# Altium footprint library Hydrophone.PcbLib: 32 footprints (part 1 of 2)
Each footprint in its own frame and in the unit in brackets; x right, y up, seen from the top. Pads: shape width x height; smd on the part's side, far side on the other; paste and mask are expansions set on the pad; w line width, h text height; cw(c..) or ccw(c..) is an arc to the next point about the centre after c.
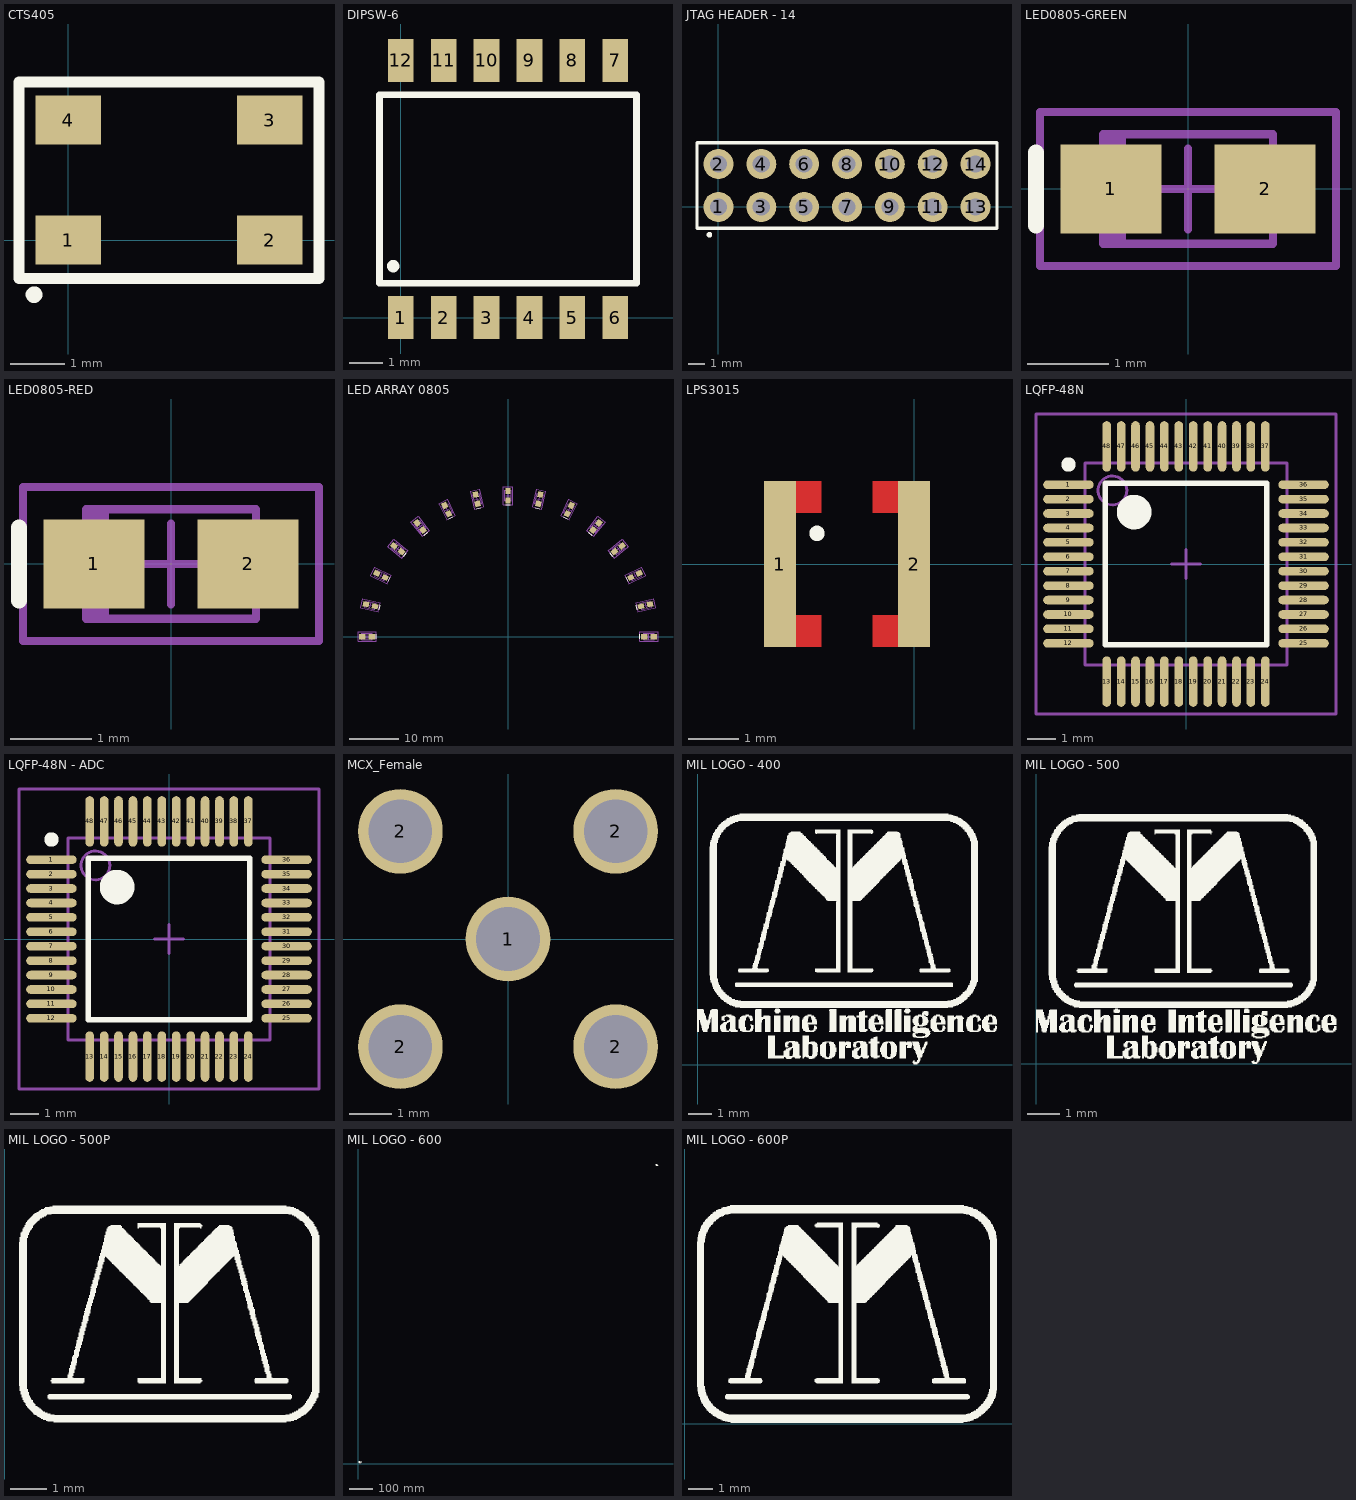
[diagram p0: the footprints below, top view; thin cyan lines are the x and y axes]

## CTS405 [mm]
pads (4):
  rect 1.2x0.9 smd: 1(0,0) 2(3.7,0) 3(3.7,2.2) 4(0,2.2)
Top Overlay:
  circle w0.254: c-0.625,-1 r0.025
  lines w0.203: -0.9,-0.7 4.6,-0.7 4.6,2.9 -0.9,2.9 -0.9,-0.7
3D body: height 0.9, standoff -0.05, extent -0.65,-0.5 4.35,2.7

## DIPSW-6 [mil] "6 POS Dip SW"
height 92.52
pads (12):
  rect 30x50 smd: 1(0,0) 2(50,0) 3(100,0) 4(150,0) 5(200,0) 6(250,0) 7(250,300) 8(200,300) 9(150,300) 10(100,300) 11(50,300) 12(0,300)
Top Overlay:
  circle w10: c-9,60 r2.24
  lines w8: -25,40 275,40 275,260 -25,260 -25,40
3D body: height 92.52, standoff 0, extent -47,-10 297.49,310.19

## JTAG HEADER - 14 [mil]
pads (14):
  round 70 hole 40: 1(0,0) 2(0,100) 3(100,0) 4(100,100) 5(200,0) 6(200,100) 7(300,0) 8(300,100) 9(400,0) 10(400,100) 11(500,0) 12(500,100) 13(600,0) 14(600,100)
Top Overlay:
  circle w10: c-21,-65 r1.41
  lines w8: -50,-50 -50,150 650,150 650,-50 -50,-50
3D body: height 233.86, standoff -115.75, extent -50,-50 650,150

## LED0805-GREEN [mm] "Molded Diode, 2-Leads, Body 2.0x1.3mm, IPC Medium Density"
height 0.9
pads (2):
  rect 1.25x1.1 smd: 1(-0.95,0) 2(0.95,0)
Top Overlay:
  lines w0.2: -1.875,-0.45 -1.875,0.45
Mechanical 13:
  rectangle: -1.05,-0.675 -0.768,0.675
  lines w0.1: -1.05,-0.675 1.05,-0.675 1.05,0.675 -1.05,0.675 -1.05,-0.675
Mechanical 15:
  lines w0.1: -0.5,0 0.5,0 ; 0,-0.5 0,0.5 ; -1.825,-0.95 1.825,-0.95 1.825,0.95 -1.825,0.95 -1.825,-0.95
3D body: height 1.1, standoff 0, extent -1.01,-0.625 1.01,0.625

## LED0805-RED [mm] "Molded Diode, 2-Leads, Body 2.0x1.3mm, IPC Medium Density"
height 0.9
pads (2):
  rect 1.25x1.1 smd: 1(-0.95,0) 2(0.95,0)
Top Overlay:
  lines w0.2: -1.875,-0.45 -1.875,0.45
Mechanical 13:
  rectangle: -1.05,-0.675 -0.768,0.675
  lines w0.1: -1.05,-0.675 -1.05,0.675 1.05,0.675 1.05,-0.675 -1.05,-0.675
Mechanical 15:
  lines w0.1: -0.5,0 0.5,0 ; 0,-0.5 0,0.5 ; -1.825,-0.95 -1.825,0.95 1.825,0.95 1.825,-0.95 -1.825,-0.95
3D body: height 1.1, standoff 0, extent -1.01,-0.625 1.01,0.625

## LED Array [mm]

## LED ARRAY 0805 [mm] "Molded Diode, 2-Leads, Body 2.0x1.3mm, IPC Medium Density"
height 0.9
pads (32):
  rect 1.25x1.1 smd: 1(27.625,0) 1(27.625,0) 2(29.525,0) 2(29.525,0) 29(-27.625,0.001) 30(-29.525,0.001)
  rect 1.1x1.25 smd rot 102.86: 3(26.932,6.147) 4(28.785,6.57)
  rect 1.1x1.25 smd rot 115.71: 5(24.889,11.986) 6(26.601,12.81)
  rect 1.1x1.25 smd rot 128.57: 7(21.598,17.224) 8(23.084,18.408)
  rect 1.1x1.25 smd rot 141.43: 9(17.224,21.598) 10(18.409,23.083)
  rect 1.1x1.25 smd rot 154.28: 11(11.986,24.889) 12(12.811,26.601)
  rect 1.1x1.25 smd rot 167.14: 13(6.148,26.932) 14(6.57,28.785)
  rect 1.1x1.25 smd: 15(0,27.625) 16(0.001,29.525)
  rect 1.1x1.25 smd rot 12.86: 17(-6.147,26.933) 18(-6.569,28.785)
  rect 1.1x1.25 smd rot 25.71: 19(-11.985,24.89) 20(-12.81,26.601)
  rect 1.1x1.25 smd rot 38.57: 21(-17.223,21.599) 22(-18.408,23.084)
  rect 1.1x1.25 smd rot 51.43: 23(-21.598,17.225) 24(-23.083,18.409)
  rect 1.1x1.25 smd rot 64.28: 25(-24.889,11.987) 26(-26.601,12.811)
  rect 1.1x1.25 smd rot 77.14: 27(-26.932,6.148) 28(-28.785,6.571)
Top Overlay:
  lines w0.2: -26.7,-0.449 -26.7,0.451 ; -26.131,5.503 -25.93,6.381 ; -24.251,11.18 -23.86,11.991 ; -21.155,16.296 -20.594,17 ; -16.998,20.595 -16.295,21.156 ; -11.99,23.861 -11.179,24.251 ; -6.38,25.931 -5.502,26.131 ; -0.45,26.7 0.45,26.7 ; 5.503,26.131 6.38,25.93 ; 11.18,24.251 11.99,23.86 ; 16.296,21.155 16.999,20.594 ; 20.594,16.999 21.156,16.295 ; 23.861,11.99 24.251,11.179 ; 25.93,6.38 26.131,5.503 ; 26.7,-0.45 26.7,0.45 26.7,-0.45
Mechanical 13:
  region: -27.525,0.676 -27.807,0.676 -27.807,-0.674 -27.525,-0.674
  region: -26.684,6.784 -26.96,6.847 -27.26,5.531 -26.985,5.468
  region: -24.506,12.552 -24.76,12.674 -25.346,11.458 -25.092,11.335
  region: -21.099,17.69 -21.319,17.866 -22.161,16.811 -21.94,16.634
  region: -16.633,21.941 -16.809,22.162 -17.865,21.32 -17.689,21.099
  region: -11.334,25.092 -11.456,25.347 -12.673,24.761 -12.55,24.507
  region: -5.466,26.985 -5.529,27.261 -6.845,26.96 -6.782,26.685
  region: 0.675,27.525 0.675,27.807 -0.675,27.807 -0.675,27.525
  region: 6.783,26.685 6.846,26.96 5.53,27.26 5.467,26.985
  region: 12.551,24.506 12.674,24.761 11.457,25.346 11.335,25.092
  region: 17.689,21.099 17.866,21.32 16.81,22.161 16.634,21.941
  region: 21.941,16.634 22.162,16.81 21.32,17.865 21.099,17.689
  region: 25.092,11.334 25.347,11.457 24.761,12.673 24.506,12.551
  region: 26.985,5.467 27.26,5.53 26.96,6.846 26.685,6.783
  rectangle: 27.525,-0.675 27.807,0.675
  rectangle: 27.525,-0.675 27.807,0.675
  lines w0.1: 27.525,-0.675 29.625,-0.675 ; 27.525,-0.675 27.525,0.675 ; 27.525,-0.675 27.525,0.675 ; 27.525,-0.675 29.625,-0.675 ; 27.525,0.675 29.625,0.675 ; 27.525,0.675 29.625,0.675 ; 29.625,-0.675 29.625,0.675 ; 29.625,-0.675 29.625,0.675 ; -29.625,-0.674 -27.525,-0.674 -27.525,0.676 -29.625,0.676 -29.625,-0.674 ; -29.032,5.935 -26.985,5.468 -26.684,6.784 -28.732,7.251 -29.032,5.935 ; -26.984,12.246 -25.092,11.335 -24.506,12.552 -26.398,13.463 -26.984,12.246 ; -23.582,17.944 -21.94,16.634 -21.099,17.69 -22.74,18.999 -23.582,17.944 ; -18.998,22.741 -17.689,21.099 -16.633,21.941 -17.943,23.583 -18.998,22.741 ; -13.461,26.399 -12.55,24.507 -11.334,25.092 -12.245,26.984 -13.461,26.399 ; -7.25,28.732 -6.782,26.685 -5.466,26.985 -5.934,29.033 -7.25,28.732 ; -0.675,27.525 -0.674,29.625 0.676,29.625 0.675,27.525 -0.675,27.525 ; 5.467,26.985 5.935,29.032 7.251,28.732 6.783,26.685 5.467,26.985 ; 11.335,25.092 12.246,26.984 13.462,26.398 12.551,24.506 11.335,25.092 ; 16.634,21.941 17.943,23.582 18.999,22.741 17.69,21.099 16.634,21.941 ; 21.099,17.689 22.741,18.998 23.583,17.943 21.941,16.634 21.099,17.689 ; 24.506,12.551 26.398,13.462 26.984,12.246 25.092,11.334 24.506,12.551 ; 26.685,6.783 28.732,7.25 29.032,5.934 26.985,5.467 26.685,6.783
Mechanical 15:
  lines w0.1: -29.075,0.001 -28.075,0.001 ; -28.575,-0.499 -28.575,0.501 ; -28.346,6.471 -27.371,6.248 ; -27.97,5.872 -27.747,6.847 ; -26.195,12.616 -25.294,12.182 ; -25.962,11.949 -25.528,12.849 ; -22.731,18.129 -21.949,17.505 ; -22.652,17.426 -22.029,18.208 ; -18.207,22.03 -17.425,22.653 ; -18.127,22.732 -17.504,21.95 ; -12.848,25.529 -11.947,25.962 ; -12.615,26.196 -12.181,25.295 ; -6.845,27.747 -5.871,27.97 ; -6.469,28.346 -6.247,27.371 ; -0.5,28.575 0.5,28.575 ; 0,28.075 0.001,29.075 ; 5.871,27.97 6.846,27.747 ; 6.248,27.371 6.47,28.346 ; 11.948,25.962 12.849,25.528 ; 12.182,25.295 12.615,26.196 ; 17.426,22.652 18.207,22.029 ; 17.505,21.95 18.128,22.732 ; 21.95,17.504 22.732,18.128 ; 22.029,18.207 22.653,17.425 ; 25.295,12.181 26.196,12.615 ; 25.528,12.849 25.962,11.948 ; 27.371,6.247 28.346,6.47 ; 27.747,6.846 27.97,5.871 ; 26.75,-0.95 30.4,-0.95 ; 26.75,-0.95 26.75,0.95 ; 26.75,-0.95 26.75,0.95 ; 26.75,-0.95 30.4,-0.95 ; 26.75,0.95 30.4,0.95 ; 26.75,0.95 30.4,0.95 ; 30.4,-0.95 30.4,0.95 ; 30.4,-0.95 30.4,0.95 ; -30.4,-0.949 -26.75,-0.949 -26.75,0.951 -30.4,0.951 -30.4,-0.949 ; -29.849,5.839 -26.291,5.027 -25.868,6.879 -29.426,7.692 -29.849,5.839 ; -27.801,12.335 -24.513,10.751 -23.688,12.463 -26.977,14.047 -27.801,12.335 ; -24.359,18.212 -21.506,15.936 -20.321,17.422 -23.175,19.697 -24.359,18.212 ; -19.696,23.176 -17.421,20.322 -15.935,21.507 -18.211,24.36 -19.696,23.176 ; -14.045,26.978 -12.462,23.689 -10.75,24.513 -12.334,27.802 -14.045,26.978 ; -7.69,29.427 -6.878,25.868 -5.026,26.291 -5.838,29.849 -7.69,29.427 ; -0.95,26.75 -0.949,30.4 0.951,30.4 0.95,26.75 -0.95,26.75 ; 5.027,26.291 5.839,29.849 7.691,29.426 6.879,25.868 5.027,26.291 ; 10.751,24.513 12.334,27.801 14.046,26.977 12.463,23.689 10.751,24.513 ; 15.936,21.506 18.212,24.36 19.697,23.175 17.421,20.322 15.936,21.506 ; 20.322,17.421 23.176,19.697 24.36,18.211 21.506,15.935 20.322,17.421 ; 23.689,12.462 26.977,14.046 27.802,12.334 24.513,10.75 23.689,12.462 ; 25.868,6.879 29.426,7.691 29.849,5.838 26.291,5.026 25.868,6.879 ; 28.075,0 29.075,0 28.075,0 ; 28.575,-0.5 28.575,0.5 28.575,-0.5
3D body: height 1.1, standoff 0, extent -29.585,-0.624 -27.565,0.626
3D body: height 1.1, standoff 0, extent -28.982,5.525 -26.735,7.193
3D body: height 1.1, standoff 0, extent -26.926,11.398 -24.564,13.4
3D body: height 1.1, standoff 0, extent -23.52,16.698 -21.161,18.935
3D body: height 1.1, standoff 0, extent -18.934,21.162 -16.697,23.521
3D body: height 1.1, standoff 0, extent -13.399,24.564 -11.396,26.927
3D body: height 1.1, standoff 0, extent -7.192,26.735 -5.524,28.982
3D body: height 1.1, standoff 0, extent -0.625,27.565 0.625,29.585
3D body: height 1.1, standoff 0, extent 5.525,26.735 7.193,28.982
3D body: height 1.1, standoff 0, extent 11.397,24.564 13.4,26.926
3D body: height 1.1, standoff 0, extent 16.698,21.161 18.935,23.52
3D body: height 1.1, standoff 0, extent 21.162,16.698 23.52,18.935
3D body: height 1.1, standoff 0, extent 24.564,11.397 26.926,13.4
3D body: height 1.1, standoff 0, extent 26.735,5.525 28.982,7.193
3D body: height 1.1, standoff 0, extent 27.565,-0.625 29.585,0.625
3D body: height 1.1, standoff 0, extent 27.565,-0.625 29.585,0.625

## LPS3015 [mil]
pads (2):
  rect 25x130 smd: 1(-105,0) 2(0,0)
Top Layer:
  region: -72.5,-65 -94,-65 -94,-40 -72.5,-40
  region: -11,40 -32.5,40 -32.5,65 -11,65
  region: -11,-65 -32.5,-65 -32.5,-40 -11,-40
  region: -72.5,40 -94,40 -94,65 -72.5,65
Top Overlay:
  circle w10: c-76,24 r1
Top Paste:
  region: -11,-65 -32.5,-65 -32.5,-40 -11,-40
  region: -11,40 -32.5,40 -32.5,65 -11,65
  region: -72.5,40 -94,40 -94,65 -72.51,65
  region: -72.5,-65 -94,-65 -94,-40 -72.5,-40
Top Solder:
  region: -69,-36 -88.5,-36 -88.5,-69 -69,-69
  region: -69,69 -88.5,69 -88.5,36 -69,36
  rectangle: -36,-69 -16.5,-36
  rectangle: -36,36 -16.5,69
3D body: height 59.06, standoff 0, extent -115.12,-62 9.12,62.25

## LQFP-48N [mm] "TSQFP, 48-Leads, Body 9.2x9.2mm (max), Pitch 0.50mm, IPC Medium Density"
height 1.6
pads (48):
  oval 1.75x0.3 smd mask+0.05: 1(-4.075,2.75) 2(-4.075,2.25) 3(-4.075,1.75) 4(-4.075,1.25) 5(-4.075,0.75) 6(-4.075,0.25) 7(-4.075,-0.25) 8(-4.075,-0.75) 9(-4.075,-1.25) 10(-4.075,-1.75) 11(-4.075,-2.25) 12(-4.075,-2.75) 25(4.075,-2.75) 26(4.075,-2.25) 27(4.075,-1.75) 28(4.075,-1.25) 29(4.075,-0.75) 30(4.075,-0.25) 31(4.075,0.25) 32(4.075,0.75) 33(4.075,1.25) 34(4.075,1.75) 35(4.075,2.25) 36(4.075,2.75)
  oval 0.3x1.75 smd mask+0.05: 13(-2.75,-4.075) 14(-2.25,-4.075) 15(-1.75,-4.075) 16(-1.25,-4.075) 17(-0.75,-4.075) 18(-0.25,-4.075) 19(0.25,-4.075) 20(0.75,-4.075) 21(1.25,-4.075) 22(1.75,-4.075) 23(2.25,-4.075) 24(2.75,-4.075) 37(2.75,4.075) 38(2.25,4.075) 39(1.75,4.075) 40(1.25,4.075) 41(0.75,4.075) 42(0.25,4.075) 43(-0.25,4.075) 44(-0.75,4.075) 45(-1.25,4.075) 46(-1.75,4.075) 47(-2.25,4.075) 48(-2.75,4.075)
Top Overlay:
  circle w0.6: c-1.8,1.8 r0.3
  circle w0.25: c-4.075,3.45 r0.125
  lines w0.2: -2.8,-2.8 2.8,-2.8 2.8,2.8 -2.8,2.8 -2.8,-2.8
Mechanical 13:
  circle w0.1: c-2.55,2.55 r0.5
  lines w0.1: -3.5,-3.5 3.5,-3.5 3.5,3.5 -3.5,3.5 -3.5,-3.5
Mechanical 15:
  lines w0.1: -0.5,0 0.5,0 ; 0,-0.5 0,0.5 ; -5.2,-5.2 5.2,-5.2 5.2,5.2 -5.2,5.2 -5.2,-5.2
3D body: height 1.56, standoff 0, extent -4.5,-4.487 4.5,4.513

## LQFP-48N - ADC [mm] "TSQFP, 48-Leads, Body 9.2x9.2mm (max), Pitch 0.50mm, IPC Medium Density"
height 1.6
pads (48):
  oval 1.75x0.3 smd mask+0.05: 1(-4.075,2.75) 2(-4.075,2.25) 3(-4.075,1.75) 4(-4.075,1.25) 5(-4.075,0.75) 6(-4.075,0.25) 7(-4.075,-0.25) 8(-4.075,-0.75) 9(-4.075,-1.25) 10(-4.075,-1.75) 11(-4.075,-2.25) 12(-4.075,-2.75) 25(4.075,-2.75) 26(4.075,-2.25) 27(4.075,-1.75) 28(4.075,-1.25) 29(4.075,-0.75) 30(4.075,-0.25) 31(4.075,0.25) 32(4.075,0.75) 33(4.075,1.25) 34(4.075,1.75) 35(4.075,2.25) 36(4.075,2.75)
  oval 0.3x1.75 smd mask+0.05: 13(-2.75,-4.075) 14(-2.25,-4.075) 15(-1.75,-4.075) 16(-1.25,-4.075) 17(-0.75,-4.075) 18(-0.25,-4.075) 19(0.25,-4.075) 20(0.75,-4.075) 21(1.25,-4.075) 22(1.75,-4.075) 23(2.25,-4.075) 24(2.75,-4.075) 37(2.75,4.075) 38(2.25,4.075) 39(1.75,4.075) 40(1.25,4.075) 41(0.75,4.075) 42(0.25,4.075) 43(-0.25,4.075) 44(-0.75,4.075) 45(-1.25,4.075) 46(-1.75,4.075) 47(-2.25,4.075) 48(-2.75,4.075)
Top Overlay:
  circle w0.6: c-1.8,1.8 r0.3
  circle w0.25: c-4.075,3.45 r0.125
  lines w0.2: -2.8,-2.8 2.8,-2.8 2.8,2.8 -2.8,2.8 -2.8,-2.8
Mechanical 13:
  circle w0.1: c-2.55,2.55 r0.5
  lines w0.1: -3.5,-3.5 3.5,-3.5 3.5,3.5 -3.5,3.5 -3.5,-3.5
Mechanical 15:
  lines w0.1: -0.5,0 0.5,0 ; 0,-0.5 0,0.5 ; -5.2,-5.2 5.2,-5.2 5.2,5.2 -5.2,5.2 -5.2,-5.2
3D body: height 1.56, standoff 0.08, extent -3.556,-3.556 3.556,3.556
3D body: height 1.56, standoff 0, extent -4.5,-4.487 4.5,4.513

## MCX_Female [mm] "MCX_female CONN JACK RCPT R/A"
height 6
pads (5):
  round 2 hole 1.5: 1(0,0) 2(-2.54,-2.54) 2(-2.54,2.54) 2(2.54,-2.54) 2(2.54,2.54)
3D body: height 3.94, standoff 0, extent -0.484,-0.509 0.483,0.459
3D body: height 5.9, standoff -3.94, extent -2.95,-3.075 6.55,2.925

## MIL LOGO - 400 [mm]
Top Overlay:
  drawing of 35 lines, arcs and shapes, not listed

## MIL LOGO - 500 [mm]
Top Overlay:
  drawing of 35 lines, arcs and shapes, not listed

## MIL LOGO - 500P [mm]
Top Overlay:
  drawing of 4 lines, arcs and shapes, not listed

## MIL LOGO - 600 [mm]
Top Overlay:
  drawing of 70 lines, arcs and shapes, not listed

## MIL LOGO - 600P [mm]
Top Overlay:
  drawing of 4 lines, arcs and shapes, not listed